# EAGLE library part MICROFIT3_VERT_10PIN (library molex)
MOLEX Micro-Fit 3.0™ Vertical Header, 3.00mm Pitch, Dual Row, 10 Circuits, with PCB Polarizing Peg, Gold, Glow Wire Compliant, Black Part Number: 43045-1028 Link <http://www.molex.com/molex/products/datasheet.jsp?part=active/0430451028_PCB_HEADERS.xml>
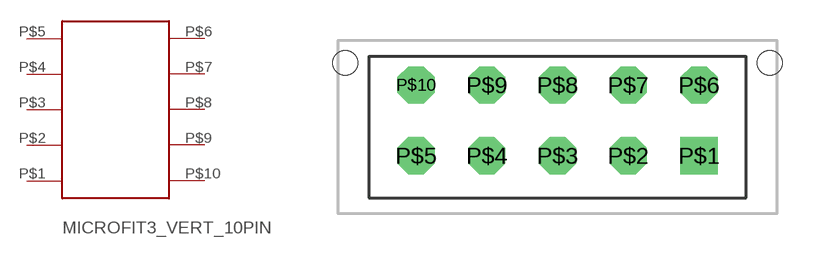
[diagram p5: symbol with the pads of MICROFIT3_VERT_10PIN; footprint MICROFIT3_VERT_10PIN]

Designator prefix JMP

## MICROFIT3_VERT_10PIN43045-1028  [MICROFIT3_VERT_10PIN]
P$1  P$1
P$2  P$2
P$3  P$3
P$4  P$4
P$5  P$5
P$6  P$6
P$7  P$7
P$8  P$8
P$9  P$9
P$10  P$10

## Footprint MICROFIT3_VERT_10PIN (pad centres in mm)
drill 1.05 square: P$1 6,-1.215
drill 1.05 octagon: P$2 3,-1.215; P$3 0,-1.215; P$4 -3,-1.215; P$5 -6,-1.215; P$6 6,1.785; P$7 3,1.785; P$8 0,1.785; P$9 -3,1.785; P$10 -6,1.785
hole 1.05 at -9,2.725
hole 1.05 at 9,2.725